# EAGLE library part TSV524 (library OpAmp)
IC TSV524 Quad Op Amp
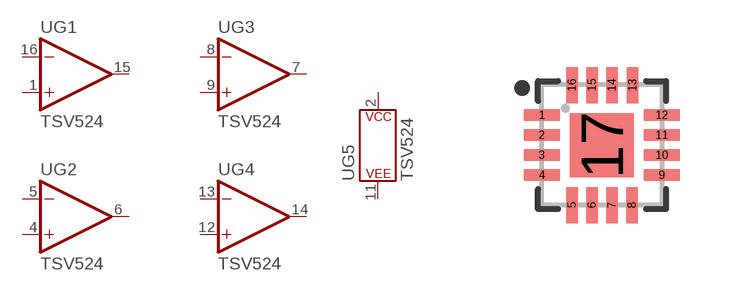
[diagram p0: symbol with the pads of QFN-16; footprint QFN-16]

Designator prefix U; gates G1=OP-AMP G2=OP-AMP G3=OP-AMP G4=OP-AMP G5=POWER_CONSORT

## TSV524 (PROD_ID: IC-15092)  [QFN-16]
1  G1:+IN  in
2  G5:V+
4  G2:+IN  in
5  G2:-IN  in
6  G2:OUT  out
7  G3:OUT  out
8  G3:-IN  in
9  G3:+IN  in
11  G5:V-
12  G4:+IN  in
13  G4:-IN  in
14  G4:OUT  out
15  G1:OUT  out
16  G1:-IN  in

## Footprint QFN-16 (pad centres in mm)
QFN-16 - 3.0mm x 3.0mm package for the MLX90393 Specifications: Pin count: 16 Pin pitch: .5mm Area: 3.0mm x 3.0mm Datasheet referenced for footprint <file:///C:/Users/andrew.england/Downloads/MLX90393-Datasheet-Melexis%20(1).pdf>
smd 0.9 x 0.29: 1 -1.5,0.75; 2 -1.5,0.25; 3 -1.5,-0.25; 4 -1.5,-0.75; 9 1.5,-0.75; 10 1.5,-0.25; 11 1.5,0.25; 12 1.5,0.75
smd 0.29 x 0.9: 5 -0.75,-1.5; 6 -0.25,-1.5; 7 0.25,-1.5; 8 0.75,-1.5; 13 0.765,1.5; 14 0.25,1.5; 15 -0.25,1.5; 16 -0.75,1.5
smd 1.6 x 1.6: 17 0,0